# EAGLE library part A4982 (library RepRapjr)
DMOS Stepper Motor Driver with Translator Auto generated by make-symbol-device-package-bsdl.ulp Rev. 32 Source: http://www.allegromicro.com/en/Products/Part_Numbers/3982/3982.pdf
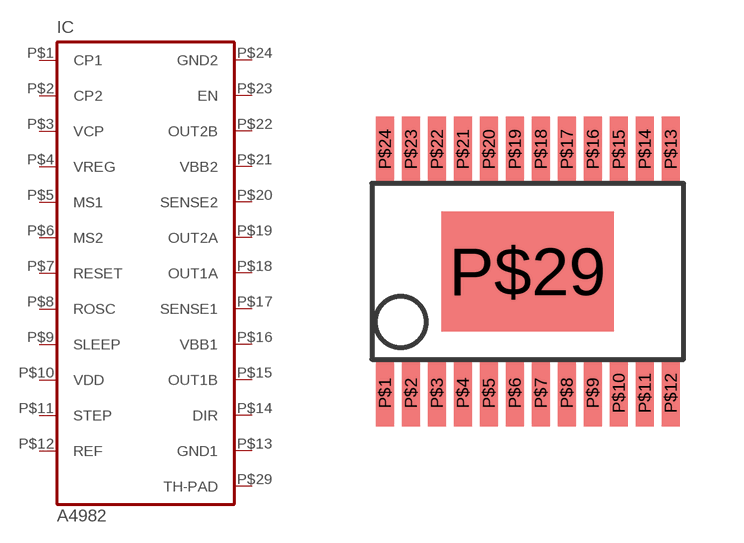
[diagram p6: symbol with the pads of TSSOPLP24; footprint TSSOPLP24]

Designator prefix IC

## A4982  [TSSOPLP24]
P$1  CP1  pas
P$2  CP2  pas
P$3  VCP  pas
P$4  VREG  pas
P$5  MS1  in
P$6  MS2  in
P$7  RESET  in
P$8  ROSC  pas
P$9  SLEEP  in
P$10  VDD  pwr
P$11  STEP  in
P$12  REF  pas
P$13  GND1  pwr
P$14  DIR  in
P$15  OUT1B  out
P$16  VBB1  pwr
P$17  SENSE1  in
P$18  OUT1A  out
P$19  OUT2A  out
P$20  SENSE2  in
P$21  VBB2  pwr
P$22  OUT2B  out
P$23  EN  in
P$24  GND2  pwr
P$29  TH-PAD  pwr

## Footprint TSSOPLP24 (pad centres in mm)
smd 0.45 x 1.65: P$1 -3.575,-3.05; P$2 -2.925,-3.05; P$3 -2.275,-3.05; P$4 -1.625,-3.05; P$5 -0.975,-3.05; P$6 -0.325,-3.05; P$7 0.325,-3.05; P$8 0.975,-3.05; P$9 1.625,-3.05; P$10 2.275,-3.05; P$11 2.925,-3.05; P$12 3.575,-3.05; P$13 3.575,3.05; P$14 2.925,3.05; P$15 2.275,3.05; P$16 1.625,3.05; P$17 0.975,3.05; P$18 0.325,3.05; P$19 -0.325,3.05; P$20 -0.975,3.05; P$21 -1.625,3.05; P$22 -2.275,3.05; P$23 -2.925,3.05; P$24 -3.575,3.05
smd 4.32 x 3: P$29 0,0